# EAGLE library part AT90CAN* (library steves)
Atmel AT90CAN32/64/128.
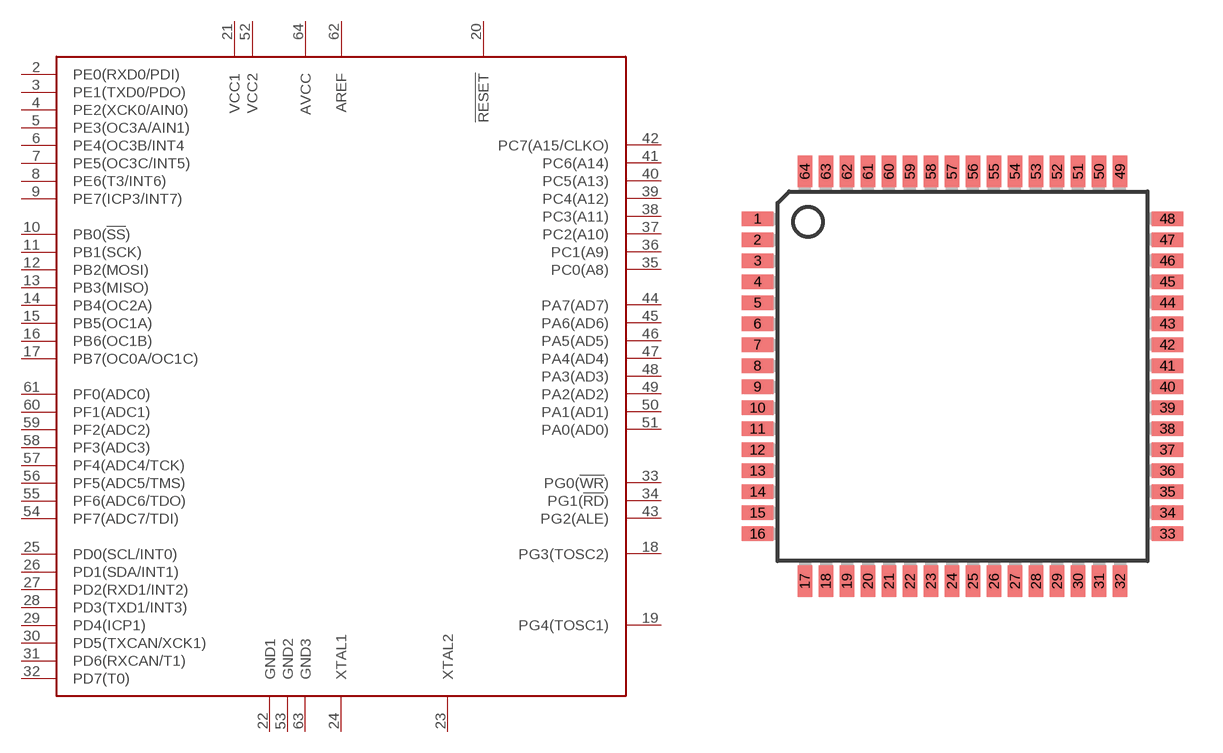
[diagram p26: symbol with the pads of TQFP-64-0.8; footprint TQFP-64-0.8]

Designator prefix -

## AT90CANTQFP  [TQFP-64-0.8]
2  PE0(RXD0/PDI)
3  PE1(TXD0/PDO)
4  PE2(XCK0/AIN0)
5  PE3(OC3A/AIN1)
6  PE4(OC3B/INT4
7  PE5(OC3C/INT5)
8  PE6(T3/INT6)
9  PE7(ICP3/INT7)
10  PB0(!SS!)
11  PB1(SCK)
12  PB2(MOSI)
13  PB3(MISO)
14  PB4(OC2A)
15  PB5(OC1A)
16  PB6(OC1B)
17  PB7(OC0A/OC1C)
18  PG3(TOSC2)
19  PG4(TOSC1)
20  !RESET  in
21  VCC1  pwr
22  GND1  pwr
23  XTAL2  out
24  XTAL1  in
25  PD0(SCL/INT0)
26  PD1(SDA/INT1)
27  PD2(RXD1/INT2)
28  PD3(TXD1/INT3)
29  PD4(ICP1)
30  PD5(TXCAN/XCK1)
31  PD6(RXCAN/T1)
32  PD7(T0)
33  PG0(!WR!)
34  PG1(!RD!)
35  PC0(A8)
36  PC1(A9)
37  PC2(A10)
38  PC3(A11)
39  PC4(A12)
40  PC5(A13)
41  PC6(A14)
42  PC7(A15/CLKO)
43  PG2(ALE)
44  PA7(AD7)
45  PA6(AD6)
46  PA5(AD5)
47  PA4(AD4)
48  PA3(AD3)
49  PA2(AD2)
50  PA1(AD1)
51  PA0(AD0)
52  VCC2  pwr
53  GND2  pwr
54  PF7(ADC7/TDI)
55  PF6(ADC6/TDO)
56  PF5(ADC5/TMS)
57  PF4(ADC4/TCK)
58  PF3(ADC3)
59  PF2(ADC2)
60  PF1(ADC1)
61  PF0(ADC0)
62  AREF  in
63  GND3  pwr
64  AVCC  pwr

## Footprint TQFP-64-0.8 (pad centres in mm)
TQFP64 with 0.8 mm pin spacing.
smd 1.194 x 0.559: 1 -7.8,6; 2 -7.8,5.2; 3 -7.8,4.4; 4 -7.8,3.6; 5 -7.8,2.8; 6 -7.8,2; 7 -7.8,1.2; 8 -7.8,0.4; 9 -7.8,-0.4; 10 -7.8,-1.2; 11 -7.8,-2; 12 -7.8,-2.8; 13 -7.8,-3.6; 14 -7.8,-4.4; 15 -7.8,-5.2; 16 -7.8,-6; 33 7.8,-6; 34 7.8,-5.2; 35 7.8,-4.4; 36 7.8,-3.6; 37 7.8,-2.8; 38 7.8,-2; 39 7.8,-1.2; 40 7.8,-0.4; 41 7.8,0.4; 42 7.8,1.2; 43 7.8,2; 44 7.8,2.8; 45 7.8,3.6; 46 7.8,4.4; 47 7.8,5.2; 48 7.8,6
smd 0.559 x 1.194: 17 -6,-7.8; 18 -5.2,-7.8; 19 -4.4,-7.8; 20 -3.6,-7.8; 21 -2.8,-7.8; 22 -2,-7.8; 23 -1.2,-7.8; 24 -0.4,-7.8; 25 0.4,-7.8; 26 1.2,-7.8; 27 2,-7.8; 28 2.8,-7.8; 29 3.6,-7.8; 30 4.4,-7.8; 31 5.2,-7.8; 32 6,-7.8; 49 6,7.8; 50 5.2,7.8; 51 4.4,7.8; 52 3.6,7.8; 53 2.8,7.8; 54 2,7.8; 55 1.2,7.8; 56 0.4,7.8; 57 -0.4,7.8; 58 -1.2,7.8; 59 -2,7.8; 60 -2.8,7.8; 61 -3.6,7.8; 62 -4.4,7.8; 63 -5.2,7.8; 64 -6,7.8